# Altium schematic symbol library BATTERY_NTC.SchLib: 1 symbol
Pins are listed as number, name and electrical type; pins without a type are passive.

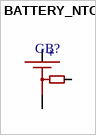
[diagram p0: symbol BATTERY_NTC]

## BATTERY_NTC
designator GB?
pins: 1, 2, 3
text: +